# Altium footprint library CAS-D20TB.PcbLib: 1 footprints
Each footprint in its own frame and in the unit in brackets; x right, y up, seen from the top. Pads: shape width x height; smd on the part's side, far side on the other; paste and mask are expansions set on the pad; w line width, h text height; cw(c..) or ccw(c..) is an arc to the next point about the centre after c.
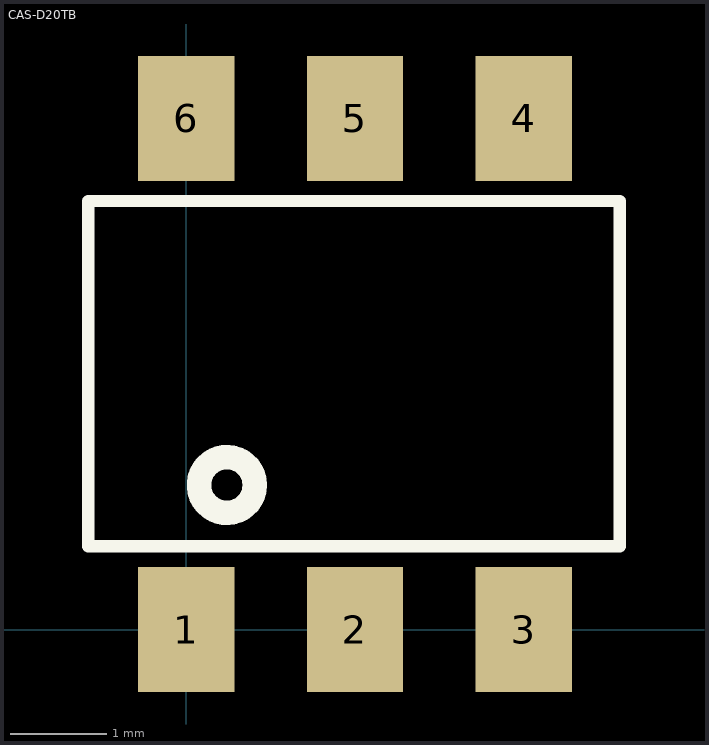
[diagram p0: the footprint, top view; thin cyan lines are the x and y axes]

## CAS-D20TB [mm] "2 position SPDT DIP switch (surface mount)"
pads (6):
  rect 1x1.3 smd: 1(0,0) 2(1.75,0) 3(3.5,0) 4(3.5,5.3) 5(1.75,5.3) 6(0,5.3)
Top Overlay:
  circle w0.254: c0.422,1.499 r0.29
  lines w0.127: -1.016,0.864 -1.016,4.445 4.496,4.445 4.496,0.864 -1.016,0.864